# EAGLE library part XC2C32A-6VQ44C (library bb_xc2c32a)
xc2c32a_vq44-ian edit this description Auto generated by make-symbol-device-package-bsdl.ulp Rev. 29 Source: xc2c32a_vq44-ian.bsd
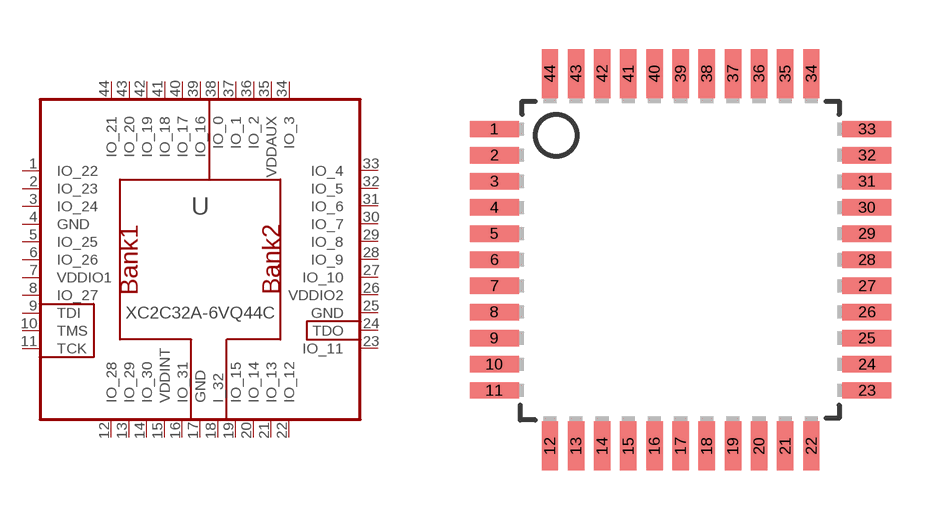
[diagram p0: symbol with the pads of VQ-44; footprint VQ-44]

Designator prefix U

## XC2C32A-6VQ44C  [VQ-44]
1  IO_22
2  IO_23
3  IO_24
4  GND  pwr
5  IO_25
6  IO_26
7  VDDIO1  pwr
8  IO_27
9  TDI  in
10  TMS  in
11  TCK  in
12  IO_28
13  IO_29
14  IO_30
15  VDDINT  pwr
16  IO_31
17  GND  pwr
18  I_32  in
19  IO_15
20  IO_14
21  IO_13
22  IO_12
23  IO_11
24  TDO  out
25  GND  pwr
26  VDDIO2  pwr
27  IO_10
28  IO_9
29  IO_8
30  IO_7
31  IO_6
32  IO_5
33  IO_4
34  IO_3
35  VDDAUX  pwr
36  IO_2
37  IO_1
38  IO_0
39  IO_16
40  IO_17
41  IO_18
42  IO_19
43  IO_20
44  IO_21

## Footprint VQ-44 (pad centres in mm)
smd 1.5 x 0.5: 1 -5.7,4; 2 -5.7,3.2; 3 -5.7,2.4; 4 -5.7,1.6; 5 -5.7,0.8; 6 -5.7,0; 7 -5.7,-0.8; 8 -5.7,-1.6; 9 -5.7,-2.4; 10 -5.7,-3.2; 11 -5.7,-4; 23 5.7,-4; 24 5.7,-3.2; 25 5.7,-2.4; 26 5.7,-1.6; 27 5.7,-0.8; 28 5.7,0; 29 5.7,0.8; 30 5.7,1.6; 31 5.7,2.4; 32 5.7,3.2; 33 5.7,4
smd 0.5 x 1.5: 12 -4,-5.7; 13 -3.2,-5.7; 14 -2.4,-5.7; 15 -1.6,-5.7; 16 -0.8,-5.7; 17 0,-5.7; 18 0.8,-5.7; 19 1.6,-5.7; 20 2.4,-5.7; 21 3.2,-5.7; 22 4,-5.7; 34 4,5.7; 35 3.2,5.7; 36 2.4,5.7; 37 1.6,5.7; 38 0.8,5.7; 39 0,5.7; 40 -0.8,5.7; 41 -1.6,5.7; 42 -2.4,5.7; 43 -3.2,5.7; 44 -4,5.7